# EAGLE library part DWM1004 (library DECAWAVE-DWM1004)
Bluetooth, WiFi 802.11b/g/n, Bluetooth v4.2 + EDR, Class 1, 2 and 3 Transceiver Module 2.4GHz ~ 2.5GHz Integrated, Trace Surface Mount Check availability <https://pricing.snapeda.com/parts/ESP32-WROOM-32D/Espressif%20Systems/view-part?ref=eda>
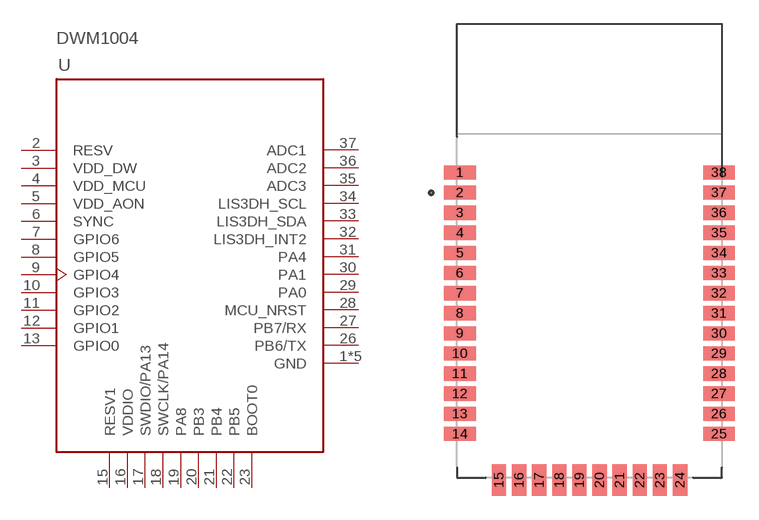
[diagram p0: symbol with the pads of DWM1004; footprint DWM1004]

Designator prefix U

## DWM1004  [DWM1004]
1  GND
2  RESV  in
3  VDD_DW  in
4  VDD_MCU  in
5  VDD_AON  in
6  SYNC
7  GPIO6
8  GPIO5
9  GPIO4
10  GPIO3
11  GPIO2
12  GPIO1
13  GPIO0
14  GND
15  RESV1  pwr
16  VDDIO
17  SWDIO/PA13
18  SWCLK/PA14
19  PA8
20  PB3
21  PB4
22  PB5
23  BOOT0
24  GND
25  GND
26  PB6/TX
27  PB7/RX
28  MCU_NRST
29  PA0
30  PA1
31  PA4
32  LIS3DH_INT2
33  LIS3DH_SDA
34  LIS3DH_SCL
35  ADC3
36  ADC2
37  ADC1  pwr
38  GND

## Footprint DWM1004 (pad centres in mm)
smd 2 x 0.9: 1 -8.182,6.53; 2 -8.182,5.26; 3 -8.182,3.99; 4 -8.182,2.72; 5 -8.182,1.45; 6 -8.182,0.18; 7 -8.182,-1.09; 8 -8.182,-2.36; 9 -8.182,-3.63; 10 -8.182,-4.9; 11 -8.182,-6.17; 12 -8.182,-7.44; 13 -8.182,-8.71; 14 -8.182,-9.98; 25 8.182,-9.98; 26 8.182,-8.71; 27 8.182,-7.44; 28 8.182,-6.17; 29 8.182,-4.9; 30 8.182,-3.63; 31 8.182,-2.36; 32 8.182,-1.09; 33 8.182,0.18; 34 8.182,1.45; 35 8.182,2.72; 36 8.182,3.99; 37 8.182,5.26; 38 8.182,6.53
smd 0.9 x 2: 15 -5.715,-12.885; 16 -4.445,-12.885; 17 -3.175,-12.885; 18 -1.905,-12.885; 19 -0.635,-12.885; 20 0.635,-12.885; 21 1.905,-12.885; 22 3.175,-12.885; 23 4.445,-12.885; 24 5.715,-12.885